# Altium schematic symbol library Resistors.SchLib: 2 symbols
Pins are listed as number, name and electrical type; pins without a type are passive.

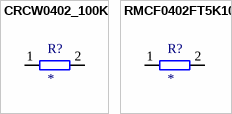
[diagram p0: symbols CRCW0402_100K to RMCF0402FT5K10]

## CRCW0402_100K
designator R?
CRCW0402 SMD Resistor
footprint CRCW0402_100K
pins: 1 6, 2 6

## RMCF0402FT5K10
designator R?
RES 5.1K OHM 1% 1/16W 0402
footprint RMCF0402FT5K10 (RES 5.1K OHM 1% 1/16W 0402)
pins: 1 6, 2 6